# EAGLE library part PIC18F2*J53 (library microchip)
PIC18F47J53 Family High-Performance USB Microcontrollers with nanoWatt XLP Technology Source: Data sheet <http://ww1.microchip.com/downloads/en/DeviceDoc/39964B.pdf>
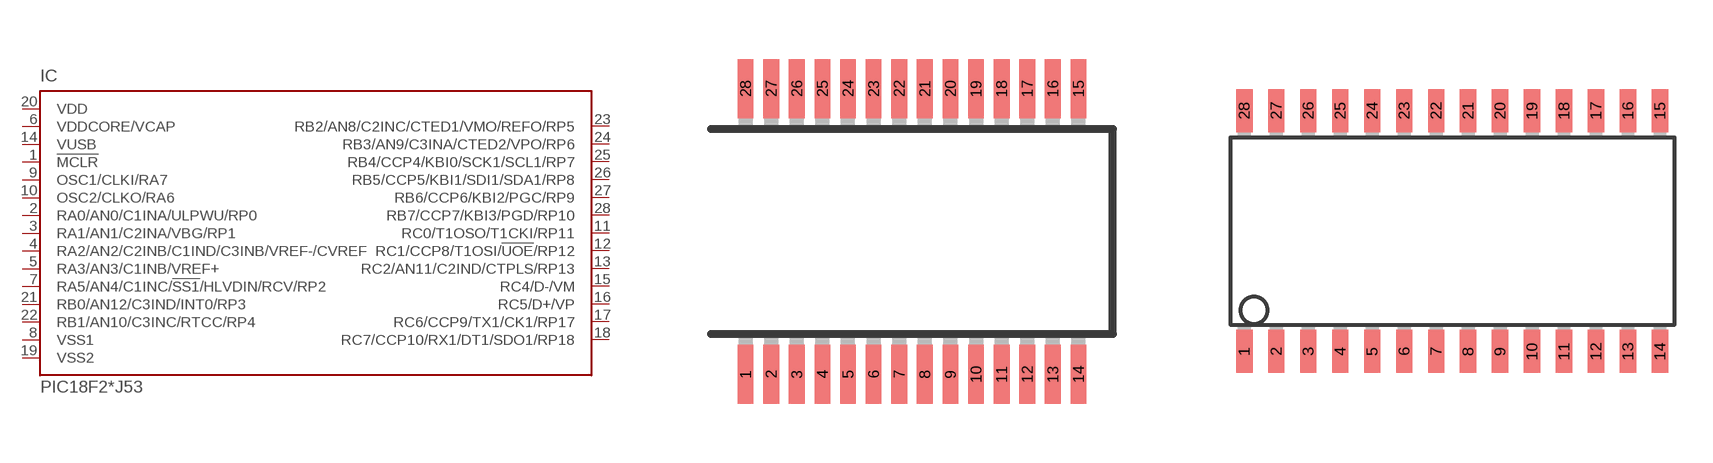
[diagram p123: symbol with the pads of SSOP28; footprints SSOP28, SO28W]

Designator prefix IC

## PIC18F26J53SS (OC_FARNELL: unknown; OC_NEWARK: unknown), PIC18F27J53SS (OC_FARNELL: unknown; OC_NEWARK: unknown)  [SSOP28]
1  !MCLR  in
2  RA0/AN0/C1INA/ULPWU/RP0
3  RA1/AN1/C2INA/VBG/RP1
4  RA2/AN2/C2INB/C1IND/C3INB/VREF-/CVREF
5  RA3/AN3/C1INB/VREF+
6  VDDCORE/VCAP  in
7  RA5/AN4/C1INC/!SS1!/HLVDIN/RCV/RP2
8  VSS1  in
9  OSC1/CLKI/RA7
10  OSC2/CLKO/RA6
11  RC0/T1OSO/T1CKI/RP11
12  RC1/CCP8/T1OSI/!UOE!/RP12
13  RC2/AN11/C2IND/CTPLS/RP13
14  VUSB  in
15  RC4/D-/VM
16  RC5/D+/VP
17  RC6/CCP9/TX1/CK1/RP17
18  RC7/CCP10/RX1/DT1/SDO1/RP18
19  VSS2  in
20  VDD  in
21  RB0/AN12/C3IND/INT0/RP3
22  RB1/AN10/C3INC/RTCC/RP4
23  RB2/AN8/C2INC/CTED1/VMO/REFO/RP5
24  RB3/AN9/C3INA/CTED2/VPO/RP6
25  RB4/CCP4/KBI0/SCK1/SCL1/RP7
26  RB5/CCP5/KBI1/SDI1/SDA1/RP8
27  RB6/CCP6/KBI2/PGC/RP9
28  RB7/CCP7/KBI3/PGD/RP10

## PIC18F26J53SO (MPN: PIC18F26J53-I/SO; OC_FARNELL: unknown; OC_NEWARK: 63R7830), PIC18F27J53SO (MPN: PIC18F27J53-I/SO; OC_FARNELL: unknown; OC_NEWARK: 63R7838)  [SO28W]
Pads as for SSOP28

## PIC18F26J53ML (MPN: PIC18F26J53-I/ML; OC_FARNELL: unknown; OC_NEWARK: 63R7829), PIC18F27J53ML (MPN: PIC18F27J53-I/ML; OC_FARNELL: 1814994; OC_NEWARK: 63R7837)  [QFN28-ML_6X6MM]
1  RA2/AN2/C2INB/C1IND/C3INB/VREF-/CVREF
2  RA3/AN3/C1INB/VREF+
3  VDDCORE/VCAP  in
4  RA5/AN4/C1INC/!SS1!/HLVDIN/RCV/RP2
5  VSS1  in
6  OSC1/CLKI/RA7
7  OSC2/CLKO/RA6
8  RC0/T1OSO/T1CKI/RP11
9  RC1/CCP8/T1OSI/!UOE!/RP12
10  RC2/AN11/C2IND/CTPLS/RP13
11  VUSB  in
12  RC4/D-/VM
13  RC5/D+/VP
14  RC6/CCP9/TX1/CK1/RP17
15  RC7/CCP10/RX1/DT1/SDO1/RP18
16  VSS2  in
17  VDD  in
18  RB0/AN12/C3IND/INT0/RP3
19  RB1/AN10/C3INC/RTCC/RP4
20  RB2/AN8/C2INC/CTED1/VMO/REFO/RP5
21  RB3/AN9/C3INA/CTED2/VPO/RP6
22  RB4/CCP4/KBI0/SCK1/SCL1/RP7
23  RB5/CCP5/KBI1/SDI1/SDA1/RP8
24  RB6/CCP6/KBI2/PGC/RP9
25  RB7/CCP7/KBI3/PGD/RP10
26  !MCLR  in
27  RA0/AN0/C1INA/ULPWU/RP0
28  RA1/AN1/C2INA/VBG/RP1

## PIC18F26J53SP (MPN: PIC18F26J53-I/SP; OC_FARNELL: unknown; OC_NEWARK: 63R7831), PIC18F27J53SP (MPN: PIC18F27J53-I/SP; OC_FARNELL: unknown; OC_NEWARK: 63R7839)  [DIL28-3]
Pads as for SSOP28

## Footprint SSOP28 (pad centres in mm)
Shrink Small Outline Package package type SS
smd 0.4 x 1.5: 1 -4.225,-3.625; 2 -3.575,-3.625; 3 -2.925,-3.625; 4 -2.275,-3.625; 5 -1.625,-3.625; 6 -0.975,-3.625; 7 -0.325,-3.625; 8 0.325,-3.625; 9 0.975,-3.625; 10 1.625,-3.625; 11 2.275,-3.625; 12 2.925,-3.625; 13 3.575,-3.625; 14 4.225,-3.625; 15 4.225,3.625; 16 3.575,3.625; 17 2.925,3.625; 18 2.275,3.625; 19 1.625,3.625; 20 0.975,3.625; 21 0.325,3.625; 22 -0.325,3.625; 23 -0.975,3.625; 24 -1.625,3.625; 25 -2.275,3.625; 26 -2.925,3.625; 27 -3.575,3.625; 28 -4.225,3.625

## Footprint SO28W (pad centres in mm)
28-Lead Plastic Small Outline (SO) Wide, 300 mil Body (SOIC) Source: http://ww1.microchip.com/downloads/en/devicedoc/39632c.pdf
smd 0.65 x 1.7: 1 -7.62,-4.78; 2 -6.35,-4.78; 3 -5.08,-4.78; 4 -3.81,-4.78; 5 -2.54,-4.78; 6 -1.27,-4.78; 7 0,-4.78; 8 1.27,-4.78; 9 2.54,-4.78; 10 3.81,-4.78; 11 5.08,-4.78; 12 6.35,-4.78; 13 7.62,-4.78; 14 8.89,-4.78; 15 8.89,4.78; 16 7.62,4.78; 17 6.35,4.78; 18 5.08,4.78; 19 3.81,4.78; 20 2.54,4.78; 21 1.27,4.78; 22 0,4.78; 23 -1.27,4.78; 24 -2.54,4.78; 25 -3.81,4.78; 26 -5.08,4.78; 27 -6.35,4.78; 28 -7.62,4.78

## Footprint QFN28-ML_6X6MM (pad centres in mm)
QFN28-ML_6X6MM Source: http://www.microchip.com .. 39637a.pdf
smd 0.7 x 0.35: 1 -2.7,1.95; 2 -2.7,1.3; 3 -2.7,0.65; 4 -2.7,0; 5 -2.7,-0.65; 6 -2.7,-1.3; 7 -2.7,-1.95; 15 2.7,-1.95; 16 2.7,-1.3; 17 2.7,-0.65; 18 2.7,0; 19 2.7,0.65; 20 2.7,1.3; 21 2.7,1.95
smd 0.35 x 0.7: 8 -1.95,-2.7; 9 -1.3,-2.7; 10 -0.65,-2.7; 11 0,-2.7; 12 0.65,-2.7; 13 1.3,-2.7; 14 1.95,-2.7; 22 1.95,2.7; 23 1.3,2.7; 24 0.65,2.7; 25 0,2.7; 26 -0.65,2.7; 27 -1.3,2.7; 28 -1.95,2.7
smd 3.7 x 3.7: EXP 0,0

## Footprint DIL28-3 (pad centres in mm)
Dual In Line package type P
drill 0.813 long: 1 -16.51,-3.81; 2 -13.97,-3.81; 3 -11.43,-3.81; 4 -8.89,-3.81; 5 -6.35,-3.81; 6 -3.81,-3.81; 7 -1.27,-3.81; 8 1.27,-3.81; 9 3.81,-3.81; 10 6.35,-3.81; 11 8.89,-3.81; 12 11.43,-3.81; 13 13.97,-3.81; 14 16.51,-3.81; 15 16.51,3.81; 16 13.97,3.81; 17 11.43,3.81; 18 8.89,3.81; 19 6.35,3.81; 20 3.81,3.81; 21 1.27,3.81; 22 -1.27,3.81; 23 -3.81,3.81; 24 -6.35,3.81; 25 -8.89,3.81; 26 -11.43,3.81; 27 -13.97,3.81; 28 -16.51,3.81